# Altium schematic symbol library THD Discrete Semiconductors.SchLib: 185 symbols (part 1 of 3)
Pins are listed as number, name and electrical type; pins without a type are passive.

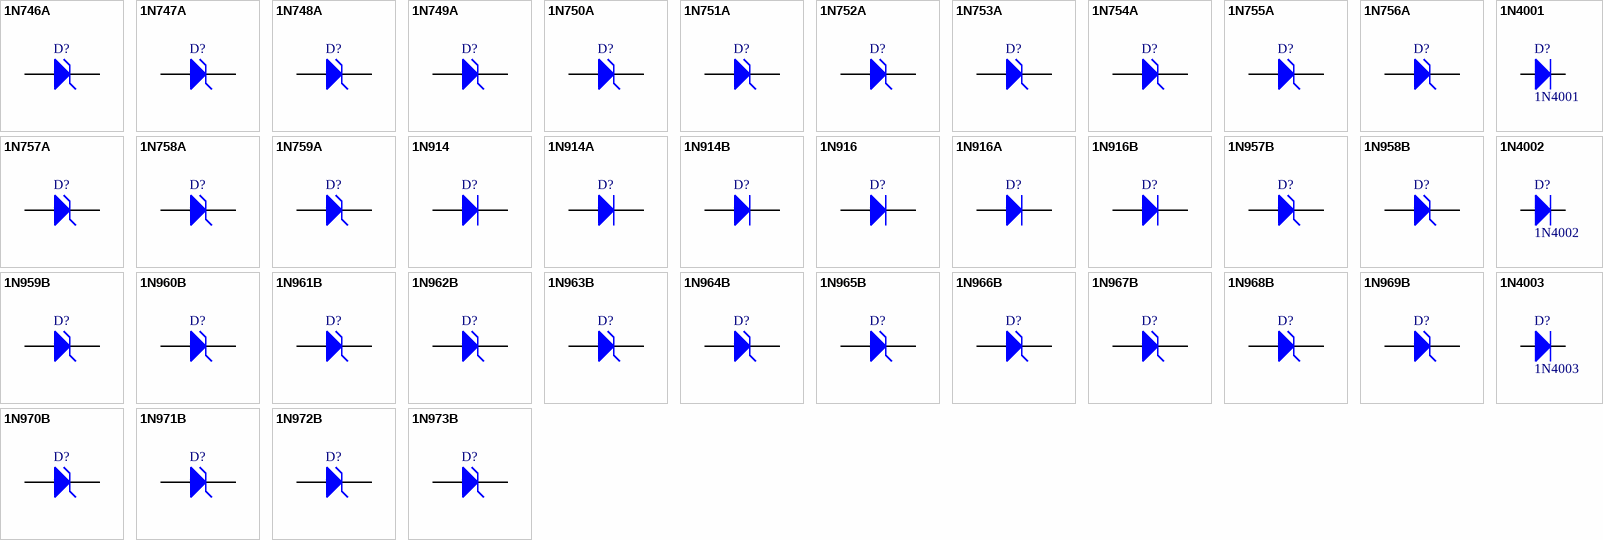
[diagram p0: symbols 1N746A to 1N4003]

## 1N746A
designator D?
3.3V Half Watt Zener; Manufacturer: Fairchild Semiconductor; Revised: 11-July-2000: SIM Model Added.; Class: Discrete; SubClass: Diode - Zener; Published: 8/06/2000; Publisher: Altium Hobart Technology Centre
simulation model 1N746A (SUBCKT)
signal-integrity model 1N746A
footprint DO-35-300-RED-GLASS (Diode, Axial; Body 5.2 x 2.7 mm (LxDia. max), Lead Dia. 0.86 mm (max))
pins: 1 A, 2 K

## 1N747A
designator D?
3.6V Half Watt Zener; Manufacturer: Fairchild Semiconductor; Revised: 11-July-2000: SIM Model Added.; Class: Discrete; SubClass: Diode - Zener; Published: 8/06/2000; Publisher: Altium Hobart Technology Centre
simulation model 1N747A (SUBCKT)
signal-integrity model 1N747A
footprint DO-35-300-RED-GLASS (Diode, Axial; Body 5.2 x 2.7 mm (LxDia. max), Lead Dia. 0.86 mm (max))
pins: 1 A, 2 K

## 1N748A
designator D?
3.9V Half Watt Zener; Manufacturer: Fairchild Semiconductor; Revised: 11-July-2000: SIM Model Added.; Class: Discrete; SubClass: Diode - Zener; Published: 8/06/2000; Publisher: Altium Hobart Technology Centre
simulation model 1N748A (SUBCKT)
signal-integrity model 1N748A
footprint DO-35-300-RED-GLASS (Diode, Axial; Body 5.2 x 2.7 mm (LxDia. max), Lead Dia. 0.86 mm (max))
pins: 1 A, 2 K

## 1N749A
designator D?
4.3V Half Watt Zener; Manufacturer: Fairchild Semiconductor; Revised: 11-July-2000: SIM Model Added.; Class: Discrete; SubClass: Diode - Zener; Published: 8/06/2000; Publisher: Altium Hobart Technology Centre
simulation model 1N749A (SUBCKT)
signal-integrity model 1N749A
footprint DO-35-300-RED-GLASS (Diode, Axial; Body 5.2 x 2.7 mm (LxDia. max), Lead Dia. 0.86 mm (max))
pins: 1 A, 2 K

## 1N750A
designator D?
4.7V Half Watt Zener; Manufacturer: Fairchild Semiconductor; Revised: 11-July-2000: SIM Model Added.; Class: Discrete; SubClass: Diode - Zener; Published: 8/06/2000; Publisher: Altium Hobart Technology Centre
simulation model 1N750A (SUBCKT)
signal-integrity model 1N750A
footprint DO-35-300-RED-GLASS (Diode, Axial; Body 5.2 x 2.7 mm (LxDia. max), Lead Dia. 0.86 mm (max))
pins: 1 A, 2 K

## 1N751A
designator D?
5.1V Half Watt Zener; Manufacturer: Fairchild Semiconductor; Revised: 11-July-2000: SIM Model Added.; Class: Discrete; SubClass: Diode - Zener; Published: 8/06/2000; Publisher: Altium Hobart Technology Centre
simulation model 1N751A (SUBCKT)
signal-integrity model 1N751A
footprint DO-35-300-RED-GLASS (Diode, Axial; Body 5.2 x 2.7 mm (LxDia. max), Lead Dia. 0.86 mm (max))
pins: 1 A, 2 K

## 1N752A
designator D?
5.6V Half Watt Zener; Manufacturer: Fairchild Semiconductor; Revised: 11-July-2000: SIM Model Added.; Class: Discrete; SubClass: Diode - Zener; Published: 8/06/2000; Publisher: Altium Hobart Technology Centre
simulation model 1N752A (SUBCKT)
signal-integrity model 1N752A
footprint DO-35-300-RED-GLASS (Diode, Axial; Body 5.2 x 2.7 mm (LxDia. max), Lead Dia. 0.86 mm (max))
pins: 1 A, 2 K

## 1N753A
designator D?
6.2V Half Watt Zener; Manufacturer: Fairchild Semiconductor; Revised: 11-July-2000: SIM Model Added.; Class: Discrete; SubClass: Diode - Zener; Published: 8/06/2000; Publisher: Altium Hobart Technology Centre
simulation model 1N753A (SUBCKT)
signal-integrity model 1N753A
footprint DO-35-300-RED-GLASS (Diode, Axial; Body 5.2 x 2.7 mm (LxDia. max), Lead Dia. 0.86 mm (max))
pins: 1 A, 2 K

## 1N754A
designator D?
6.8V Half Watt Zener; Manufacturer: Fairchild Semiconductor; Revised: 11-July-2000: SIM Model Added.; Class: Discrete; SubClass: Diode - Zener; Published: 8/06/2000; Publisher: Altium Hobart Technology Centre
simulation model 1N754A (SUBCKT)
signal-integrity model 1N754A
footprint DO-35-300-RED-GLASS (Diode, Axial; Body 5.2 x 2.7 mm (LxDia. max), Lead Dia. 0.86 mm (max))
pins: 1 A, 2 K

## 1N755A
designator D?
7.5V Half Watt Zener; Manufacturer: Fairchild Semiconductor; Revised: 11-July-2000: SIM Model Added.; Class: Discrete; SubClass: Diode - Zener; Published: 8/06/2000; Publisher: Altium Hobart Technology Centre
simulation model 1N755A (SUBCKT)
signal-integrity model 1N755A
footprint DO-35-300-RED-GLASS (Diode, Axial; Body 5.2 x 2.7 mm (LxDia. max), Lead Dia. 0.86 mm (max))
pins: 1 A, 2 K

## 1N756A
designator D?
8.2V Half Watt Zener; Manufacturer: Fairchild Semiconductor; Revised: 11-July-2000: SIM Model Added.; Class: Discrete; SubClass: Diode - Zener; Published: 8/06/2000; Publisher: Altium Hobart Technology Centre
simulation model 1N756A (SUBCKT)
signal-integrity model 1N756A
footprint DO-35-300-RED-GLASS (Diode, Axial; Body 5.2 x 2.7 mm (LxDia. max), Lead Dia. 0.86 mm (max))
pins: 1 A, 2 K

## 1N757A
designator D?
9.1V Half Watt Zener; Manufacturer: Fairchild Semiconductor; Revised: 11-July-2000: SIM Model Added.; Class: Discrete; SubClass: Diode - Zener; Published: 8/06/2000; Publisher: Altium Hobart Technology Centre
simulation model 1N757A (SUBCKT)
signal-integrity model 1N757A
footprint DO-35-300-RED-GLASS (Diode, Axial; Body 5.2 x 2.7 mm (LxDia. max), Lead Dia. 0.86 mm (max))
pins: 1 A, 2 K

## 1N758A
designator D?
10.0V Half Watt Zener; Manufacturer: Fairchild Semiconductor; Revised: 11-July-2000: SIM Model Added.; Class: Discrete; SubClass: Diode - Zener; Published: 8/06/2000; Publisher: Altium Hobart Technology Centre
simulation model 1N758A (SUBCKT)
signal-integrity model 1N758A
footprint DO-35-300-RED-GLASS (Diode, Axial; Body 5.2 x 2.7 mm (LxDia. max), Lead Dia. 0.86 mm (max))
pins: 1 A, 2 K

## 1N759A
designator D?
12.0V Half Watt Zener; Manufacturer: Fairchild Semiconductor; Revised: 11-July-2000: SIM Model Added.; Class: Discrete; SubClass: Diode - Zener; Published: 8/06/2000; Publisher: Altium Hobart Technology Centre
simulation model 1N759A (SUBCKT)
signal-integrity model 1N759A
footprint DO-35-300-RED-GLASS (Diode, Axial; Body 5.2 x 2.7 mm (LxDia. max), Lead Dia. 0.86 mm (max))
pins: 1 A, 2 K

## 1N914
designator D?
High Conductance Fast Diode; Manufacturer: Fairchild Semiconductor; Revised: 11-July-2000: SIM Model Added.; Class: Discrete; SubClass: Diode - Switching; Published: 8/06/2000; Publisher: Altium Hobart Technology Centre
simulation model 1N914 (DIODE)
signal-integrity model 1N914
footprint DO-35-300-RED-GLASS (Diode, Axial; Body 5.2 x 2.7 mm (LxDia. max), Lead Dia. 0.86 mm (max))
pins: 1 A, 2 K

## 1N914A
designator D?
High Conductance Fast Diode; Manufacturer: Fairchild Semiconductor; Revised: 11-July-2000: SIM Model Added.; Class: Discrete; SubClass: Diode - Switching; Published: 8/06/2000; Publisher: Altium Hobart Technology Centre
simulation model 1N914A (DIODE)
signal-integrity model 1N914A
footprint DO-35-300-RED-GLASS (Diode, Axial; Body 5.2 x 2.7 mm (LxDia. max), Lead Dia. 0.86 mm (max))
pins: 1 A, 2 K

## 1N914B
designator D?
High Conductance Fast Diode; Manufacturer: Fairchild Semiconductor; Revised: 11-July-2000: SIM Model Added.; Class: Discrete; SubClass: Diode - Switching; Published: 8/06/2000; Publisher: Altium Hobart Technology Centre
simulation model 1N914B (DIODE)
signal-integrity model 1N914B
footprint DO-35-300-RED-GLASS (Diode, Axial; Body 5.2 x 2.7 mm (LxDia. max), Lead Dia. 0.86 mm (max))
pins: 1 A, 2 K

## 1N916
designator D?
High Conductance Fast Diode; Manufacturer: Fairchild Semiconductor; Revised: 11-July-2000: SIM Model Added.; Class: Discrete; SubClass: Diode - Switching; Published: 8/06/2000; Publisher: Altium Hobart Technology Centre
simulation model 1N916 (DIODE)
signal-integrity model 1N916
footprint DO-35-300-RED-GLASS (Diode, Axial; Body 5.2 x 2.7 mm (LxDia. max), Lead Dia. 0.86 mm (max))
pins: 1 A, 2 K

## 1N916A
designator D?
High Conductance Fast Diode; Manufacturer: Fairchild Semiconductor; Revised: 11-July-2000: SIM Model Added.; Class: Discrete; SubClass: Diode - Switching; Published: 8/06/2000; Publisher: Altium Hobart Technology Centre
simulation model 1N916A (DIODE)
signal-integrity model 1N916A
footprint DO-35-300-RED-GLASS (Diode, Axial; Body 5.2 x 2.7 mm (LxDia. max), Lead Dia. 0.86 mm (max))
pins: 1 A, 2 K

## 1N916B
designator D?
High Conductance Fast Diode; Manufacturer: Fairchild Semiconductor; Revised: 11-July-2000: SIM Model Added.; Class: Discrete; SubClass: Diode - Switching; Published: 8/06/2000; Publisher: Altium Hobart Technology Centre
simulation model 1N916B (DIODE)
signal-integrity model 1N916B
footprint DO-35-300-RED-GLASS (Diode, Axial; Body 5.2 x 2.7 mm (LxDia. max), Lead Dia. 0.86 mm (max))
pins: 1 A, 2 K

## 1N957B
designator D?
6.8V Half Watt Zener; Manufacturer: Fairchild Semiconductor; Revised: 11-July-2000: SIM Model Added.; Class: Discrete; SubClass: Diode - Zener; Published: 8/06/2000; Publisher: Altium Hobart Technology Centre
simulation model 1N957B (SUBCKT)
signal-integrity model 1N957B
footprint DO-35-300-RED-GLASS (Diode, Axial; Body 5.2 x 2.7 mm (LxDia. max), Lead Dia. 0.86 mm (max))
pins: 1 A, 2 K

## 1N958B
designator D?
7.5V Half Watt Zener; Manufacturer: Fairchild Semiconductor; Revised: 11-July-2000: SIM Model Added.; Class: Discrete; SubClass: Diode - Zener; Published: 8/06/2000; Publisher: Altium Hobart Technology Centre
simulation model 1N958B (SUBCKT)
signal-integrity model 1N958B
footprint DO-35-300-RED-GLASS (Diode, Axial; Body 5.2 x 2.7 mm (LxDia. max), Lead Dia. 0.86 mm (max))
pins: 1 A, 2 K

## 1N959B
designator D?
8.2V Half Watt Zener; Manufacturer: Fairchild Semiconductor; Revised: 11-July-2000: SIM Model Added.; Class: Discrete; SubClass: Diode - Zener; Published: 8/06/2000; Publisher: Altium Hobart Technology Centre
simulation model 1N959B (SUBCKT)
signal-integrity model 1N959B
footprint DO-35-300-RED-GLASS (Diode, Axial; Body 5.2 x 2.7 mm (LxDia. max), Lead Dia. 0.86 mm (max))
pins: 1 A, 2 K

## 1N960B
designator D?
9.1V Half Watt Zener; Manufacturer: Fairchild Semiconductor; Revised: 11-July-2000: SIM Model Added.; Class: Discrete; SubClass: Diode - Zener; Published: 8/06/2000; Publisher: Altium Hobart Technology Centre
simulation model 1N960B (SUBCKT)
signal-integrity model 1N960B
footprint DO-35-300-RED-GLASS (Diode, Axial; Body 5.2 x 2.7 mm (LxDia. max), Lead Dia. 0.86 mm (max))
pins: 1 A, 2 K

## 1N961B
designator D?
10V Half Watt Zener; Manufacturer: Fairchild Semiconductor; Revised: 11-July-2000: SIM Model Added.; Class: Discrete; SubClass: Diode - Zener; Published: 8/06/2000; Publisher: Altium Hobart Technology Centre
simulation model 1N961B (SUBCKT)
signal-integrity model 1N961B
footprint DO-35-300-RED-GLASS (Diode, Axial; Body 5.2 x 2.7 mm (LxDia. max), Lead Dia. 0.86 mm (max))
pins: 1 A, 2 K

## 1N962B
designator D?
11V Half Watt Zener; Manufacturer: Fairchild Semiconductor; Revised: 11-July-2000: SIM Model Added.; Class: Discrete; SubClass: Diode - Zener; Published: 8/06/2000; Publisher: Altium Hobart Technology Centre
simulation model 1N962B (SUBCKT)
signal-integrity model 1N962B
footprint DO-35-300-RED-GLASS (Diode, Axial; Body 5.2 x 2.7 mm (LxDia. max), Lead Dia. 0.86 mm (max))
pins: 1 A, 2 K

## 1N963B
designator D?
12V Half Watt Zener; Manufacturer: Fairchild Semiconductor; Revised: 11-July-2000: SIM Model Added.; Class: Discrete; SubClass: Diode - Zener; Published: 8/06/2000; Publisher: Altium Hobart Technology Centre
simulation model 1N963B (SUBCKT)
signal-integrity model 1N963B
footprint DO-35-300-RED-GLASS (Diode, Axial; Body 5.2 x 2.7 mm (LxDia. max), Lead Dia. 0.86 mm (max))
pins: 1 A, 2 K

## 1N964B
designator D?
13V Half Watt Zener; Manufacturer: Fairchild Semiconductor; Revised: 11-July-2000: SIM Model Added.; Class: Discrete; SubClass: Diode - Zener; Published: 8/06/2000; Publisher: Altium Hobart Technology Centre
simulation model 1N964B (SUBCKT)
signal-integrity model 1N964B
footprint DO-35-300-RED-GLASS (Diode, Axial; Body 5.2 x 2.7 mm (LxDia. max), Lead Dia. 0.86 mm (max))
pins: 1 A, 2 K

## 1N965B
designator D?
15V Half Watt Zener; Manufacturer: Fairchild Semiconductor; Revised: 11-July-2000: SIM Model Added.; Class: Discrete; SubClass: Diode - Zener; Published: 8/06/2000; Publisher: Altium Hobart Technology Centre
simulation model 1N965B (SUBCKT)
signal-integrity model 1N965B
footprint DO-35-300-RED-GLASS (Diode, Axial; Body 5.2 x 2.7 mm (LxDia. max), Lead Dia. 0.86 mm (max))
pins: 1 A, 2 K

## 1N966B
designator D?
16V Half Watt Zener; Manufacturer: Fairchild Semiconductor; Revised: 11-July-2000: SIM Model Added.; Class: Discrete; SubClass: Diode - Zener; Published: 8/06/2000; Publisher: Altium Hobart Technology Centre
simulation model 1N966B (SUBCKT)
signal-integrity model 1N966B
footprint DO-35-300-RED-GLASS (Diode, Axial; Body 5.2 x 2.7 mm (LxDia. max), Lead Dia. 0.86 mm (max))
pins: 1 A, 2 K

## 1N967B
designator D?
18V Half Watt Zener; Manufacturer: Fairchild Semiconductor; Revised: 11-July-2000: SIM Model Added.; Class: Discrete; SubClass: Diode - Zener; Published: 8/06/2000; Publisher: Altium Hobart Technology Centre
simulation model 1N967B (SUBCKT)
signal-integrity model 1N967B
footprint DO-35-300-RED-GLASS (Diode, Axial; Body 5.2 x 2.7 mm (LxDia. max), Lead Dia. 0.86 mm (max))
pins: 1 A, 2 K

## 1N968B
designator D?
20V Half Watt Zener; Manufacturer: Fairchild Semiconductor; Revised: 11-July-2000: SIM Model Added.; Class: Discrete; SubClass: Diode - Zener; Published: 8/06/2000; Publisher: Altium Hobart Technology Centre
simulation model 1N968B (SUBCKT)
signal-integrity model 1N968B
footprint DO-35-300-RED-GLASS (Diode, Axial; Body 5.2 x 2.7 mm (LxDia. max), Lead Dia. 0.86 mm (max))
pins: 1 A, 2 K

## 1N969B
designator D?
22V Half Watt Zener; Manufacturer: Fairchild Semiconductor; Revised: 11-July-2000: SIM Model Added.; Class: Discrete; SubClass: Diode - Zener; Published: 8/06/2000; Publisher: Altium Hobart Technology Centre
simulation model 1N969B (SUBCKT)
signal-integrity model 1N969B
footprint DO-35-300-RED-GLASS (Diode, Axial; Body 5.2 x 2.7 mm (LxDia. max), Lead Dia. 0.86 mm (max))
pins: 1 A, 2 K

## 1N970B
designator D?
24V Half Watt Zener; Manufacturer: Fairchild Semiconductor; Revised: 11-July-2000: SIM Model Added.; Class: Discrete; SubClass: Diode - Zener; Published: 8/06/2000; Publisher: Altium Hobart Technology Centre
simulation model 1N970B (SUBCKT)
signal-integrity model 1N970B
footprint DO-35-300-RED-GLASS (Diode, Axial; Body 5.2 x 2.7 mm (LxDia. max), Lead Dia. 0.86 mm (max))
pins: 1 A, 2 K

## 1N971B
designator D?
27V Half Watt Zener; Manufacturer: Fairchild Semiconductor; Revised: 11-July-2000: SIM Model Added.; Class: Discrete; SubClass: Diode - Zener; Published: 8/06/2000; Publisher: Altium Hobart Technology Centre
simulation model 1N971B (SUBCKT)
signal-integrity model 1N971B
footprint DO-35-300-RED-GLASS (Diode, Axial; Body 5.2 x 2.7 mm (LxDia. max), Lead Dia. 0.86 mm (max))
pins: 1 A, 2 K

## 1N972B
designator D?
30V Half Watt Zener; Manufacturer: Fairchild Semiconductor; Revised: 11-July-2000: SIM Model Added.; Class: Discrete; SubClass: Diode - Zener; Published: 8/06/2000; Publisher: Altium Hobart Technology Centre
simulation model 1N972B (SUBCKT)
signal-integrity model 1N972B
footprint DO-35-300-RED-GLASS (Diode, Axial; Body 5.2 x 2.7 mm (LxDia. max), Lead Dia. 0.86 mm (max))
pins: 1 A, 2 K

## 1N973B
designator D?
33V Half Watt Zener; Manufacturer: Fairchild Semiconductor; Revised: 11-July-2000: SIM Model Added.; Class: Discrete; SubClass: Diode - Zener; Published: 8/06/2000; Publisher: Altium Hobart Technology Centre
simulation model 1N973B (SUBCKT)
signal-integrity model 1N973B
footprint DO-35-300-RED-GLASS (Diode, Axial; Body 5.2 x 2.7 mm (LxDia. max), Lead Dia. 0.86 mm (max))
pins: 1 A, 2 K

## 1N4001
designator D?
1A,  Vrms=35V General Purpose Rectifier; Published: 8-Jun-2000; LatestRevisionDate: 17-Jul-2002; LatestRevisionNote: Re-released for DXP Platform.; DatasheetVersion: 1998; PackageVersion: Aug-1999; PackageReference: DO-41; Publisher: Altium Limited; PackageDescription: Diode, Axial; Body 5.2 x 2.7 mm (LxDia. max), Lead Dia. 0.86 mm (max); Code_JEDEC: DO-204-AL; ComponentLink1Description: Manufacturer Link; ComponentLink1URL: http://www.fairchildsemi.com/; ComponentLink2Description: Datasheet; ComponentLink2URL: http://www.fairchildsemi.com/ds/1N%2F1N4001.pdf
footprint DO-41-400-BLACK (Diode, Axial; Body 5.2 x 2.7 mm (LxDia. max), Lead Dia. 0.86 mm (max))
footprint DO-41-300-BLACK (Diode, Axial; Body 5.2 x 2.7 mm (LxDia. max), Lead Dia. 0.86 mm (max))
footprint DO-41-500-BLACK (Diode, Axial; Body 5.2 x 2.7 mm (LxDia. max), Lead Dia. 0.86 mm (max))
pins: 1 A, 2 K

## 1N4002
designator D?
1A,  Vrms=70V General Purpose Rectifier; Published: 8-Jun-2000; LatestRevisionDate: 17-Jul-2002; LatestRevisionNote: Re-released for DXP Platform.; DatasheetVersion: 1998; PackageVersion: Aug-1999; PackageReference: DO-41; Publisher: Altium Limited; PackageDescription: Diode, Axial; Body 5.2 x 2.7 mm (LxDia. max), Lead Dia. 0.86 mm (max); Code_JEDEC: DO-204-AL; ComponentLink1Description: Manufacturer Link; ComponentLink1URL: http://www.fairchildsemi.com/; ComponentLink2Description: Datasheet; ComponentLink2URL: http://www.fairchildsemi.com/ds/1N%2F1N4001.pdf
footprint DO-41-400-BLACK (Diode, Axial; Body 5.2 x 2.7 mm (LxDia. max), Lead Dia. 0.86 mm (max))
footprint DO-41-300-BLACK (Diode, Axial; Body 5.2 x 2.7 mm (LxDia. max), Lead Dia. 0.86 mm (max))
footprint DO-41-500-BLACK (Diode, Axial; Body 5.2 x 2.7 mm (LxDia. max), Lead Dia. 0.86 mm (max))
pins: 1 A, 2 K

## 1N4003
designator D?
1A,  Vrms=140V General Purpose Rectifier; Published: 8-Jun-2000; LatestRevisionDate: 17-Jul-2002; LatestRevisionNote: Re-released for DXP Platform.; DatasheetVersion: 1998; PackageVersion: Aug-1999; PackageReference: DO-41; Publisher: Altium Limited; PackageDescription: Diode, Axial; Body 5.2 x 2.7 mm (LxDia. max), Lead Dia. 0.86 mm (max); Code_JEDEC: DO-204-AL; ComponentLink1Description: Manufacturer Link; ComponentLink1URL: http://www.fairchildsemi.com/; ComponentLink2Description: Datasheet; ComponentLink2URL: http://www.fairchildsemi.com/ds/1N%2F1N4001.pdf
footprint DO-41-400-BLACK (Diode, Axial; Body 5.2 x 2.7 mm (LxDia. max), Lead Dia. 0.86 mm (max))
footprint DO-41-300-BLACK (Diode, Axial; Body 5.2 x 2.7 mm (LxDia. max), Lead Dia. 0.86 mm (max))
footprint DO-41-500-BLACK (Diode, Axial; Body 5.2 x 2.7 mm (LxDia. max), Lead Dia. 0.86 mm (max))
pins: 1 A, 2 K

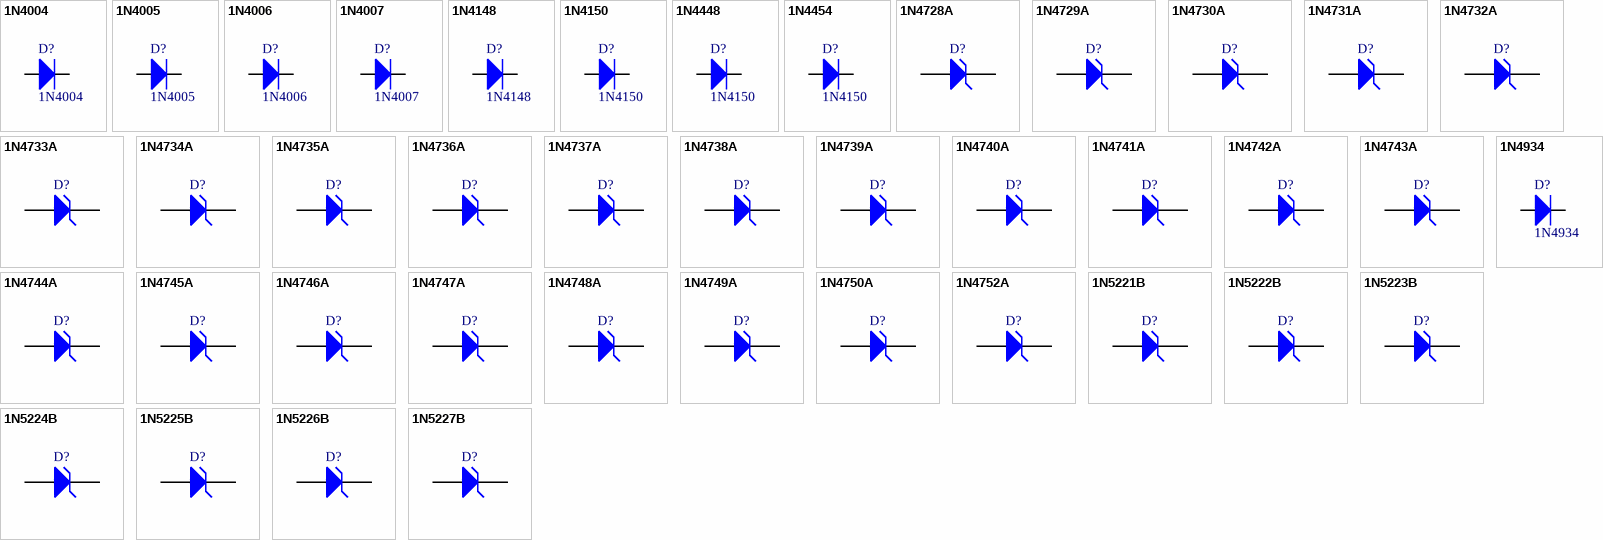
[diagram p1: symbols 1N4004 to 1N5227B]

## 1N4004
designator D?
1A,  Vrms=280V General Purpose Rectifier; Published: 8-Jun-2000; LatestRevisionDate: 17-Jul-2002; LatestRevisionNote: Re-released for DXP Platform.; DatasheetVersion: 1998; PackageVersion: Aug-1999; PackageReference: DO-41; Publisher: Altium Limited; PackageDescription: Diode, Axial; Body 5.2 x 2.7 mm (LxDia. max), Lead Dia. 0.86 mm (max); Code_JEDEC: DO-204-AL; ComponentLink1Description: Manufacturer Link; ComponentLink1URL: http://www.fairchildsemi.com/; ComponentLink2Description: Datasheet; ComponentLink2URL: http://www.fairchildsemi.com/ds/1N%2F1N4001.pdf
footprint DO-41-400-BLACK (Diode, Axial; Body 5.2 x 2.7 mm (LxDia. max), Lead Dia. 0.86 mm (max))
footprint DO-41-300-BLACK (Diode, Axial; Body 5.2 x 2.7 mm (LxDia. max), Lead Dia. 0.86 mm (max))
footprint DO-41-500-BLACK (Diode, Axial; Body 5.2 x 2.7 mm (LxDia. max), Lead Dia. 0.86 mm (max))
pins: 1 A, 2 K

## 1N4005
designator D?
1A,  Vrms=420V General Purpose Rectifier; Published: 8-Jun-2000; LatestRevisionDate: 17-Jul-2002; LatestRevisionNote: Re-released for DXP Platform.; DatasheetVersion: 1998; PackageVersion: Aug-1999; PackageReference: DO-41; Publisher: Altium Limited; PackageDescription: Diode, Axial; Body 5.2 x 2.7 mm (LxDia. max), Lead Dia. 0.86 mm (max); Code_JEDEC: DO-204-AL; ComponentLink1Description: Manufacturer Link; ComponentLink1URL: http://www.fairchildsemi.com/; ComponentLink2Description: Datasheet; ComponentLink2URL: http://www.fairchildsemi.com/ds/1N%2F1N4001.pdf
footprint DO-41-400-BLACK (Diode, Axial; Body 5.2 x 2.7 mm (LxDia. max), Lead Dia. 0.86 mm (max))
footprint DO-41-300-BLACK (Diode, Axial; Body 5.2 x 2.7 mm (LxDia. max), Lead Dia. 0.86 mm (max))
footprint DO-41-500-BLACK (Diode, Axial; Body 5.2 x 2.7 mm (LxDia. max), Lead Dia. 0.86 mm (max))
pins: 1 A, 2 K

## 1N4006
designator D?
1A,  Vrms=560V General Purpose Rectifier; Published: 8-Jun-2000; LatestRevisionDate: 17-Jul-2002; LatestRevisionNote: Re-released for DXP Platform.; DatasheetVersion: 1998; PackageVersion: Aug-1999; PackageReference: DO-41; Publisher: Altium Limited; PackageDescription: Diode, Axial; Body 5.2 x 2.7 mm (LxDia. max), Lead Dia. 0.86 mm (max); Code_JEDEC: DO-204-AL; ComponentLink1Description: Manufacturer Link; ComponentLink1URL: http://www.fairchildsemi.com/; ComponentLink2Description: Datasheet; ComponentLink2URL: http://www.fairchildsemi.com/ds/1N%2F1N4001.pdf
footprint DO-41-400-BLACK (Diode, Axial; Body 5.2 x 2.7 mm (LxDia. max), Lead Dia. 0.86 mm (max))
footprint DO-41-300-BLACK (Diode, Axial; Body 5.2 x 2.7 mm (LxDia. max), Lead Dia. 0.86 mm (max))
footprint DO-41-500-BLACK (Diode, Axial; Body 5.2 x 2.7 mm (LxDia. max), Lead Dia. 0.86 mm (max))
pins: 1 A, 2 K

## 1N4007
designator D?
1A,  Vrms=700V General Purpose Rectifier; Published: 8-Jun-2000; LatestRevisionDate: 17-Jul-2002; LatestRevisionNote: Re-released for DXP Platform.; DatasheetVersion: 1998; PackageVersion: Aug-1999; PackageReference: DO-41; Publisher: Altium Limited; PackageDescription: Diode, Axial; Body 5.2 x 2.7 mm (LxDia. max), Lead Dia. 0.86 mm (max); Code_JEDEC: DO-204-AL; ComponentLink1Description: Manufacturer Link; ComponentLink1URL: http://www.fairchildsemi.com/; ComponentLink2Description: Datasheet; ComponentLink2URL: http://www.fairchildsemi.com/ds/1N%2F1N4001.pdf
footprint DO-41-400-BLACK (Diode, Axial; Body 5.2 x 2.7 mm (LxDia. max), Lead Dia. 0.86 mm (max))
footprint DO-41-300-BLACK (Diode, Axial; Body 5.2 x 2.7 mm (LxDia. max), Lead Dia. 0.86 mm (max))
footprint DO-41-500-BLACK (Diode, Axial; Body 5.2 x 2.7 mm (LxDia. max), Lead Dia. 0.86 mm (max))
pins: 1 A, 2 K

## 1N4148
designator D?
300mA Switching Diode; Published: 8-Jun-2000; LatestRevisionDate: 17-Jul-2002; LatestRevisionNote: Re-released for DXP Platform.; DatasheetVersion: 1998; PackageVersion: Aug-1999; PackageReference: DO-41; Publisher: Altium Limited; PackageDescription: Diode, Axial; Body 5.2 x 2.7 mm (LxDia. max), Lead Dia. 0.86 mm (max); Code_JEDEC: DO-204-AL; ComponentLink1Description: Manufacturer Link; ComponentLink1URL: http://www.fairchildsemi.com/; ComponentLink2Description: Datasheet; ComponentLink2URL: http://www.fairchildsemi.com/ds/1N%2F1N4001.pdf
footprint DO-41-300-RED-GLASS (Diode, Axial; Body 5.2 x 2.7 mm (LxDia. max), Lead Dia. 0.86 mm (max))
footprint DO-41-400-RED-GLASS (Diode, Axial; Body 5.2 x 2.7 mm (LxDia. max), Lead Dia. 0.86 mm (max))
footprint DO-41-500-RED-GLASS (Diode, Axial; Body 5.2 x 2.7 mm (LxDia. max), Lead Dia. 0.86 mm (max))
pins: 1 A, 2 K

## 1N4150
designator D?
High Conductance Ultra Fast Diode; Published: 8-Jun-2000; LatestRevisionDate: 17-Jul-2002; LatestRevisionNote: Re-released for DXP Platform.; DatasheetVersion: 1998; PackageVersion: Aug-1999; PackageReference: DO-41; Publisher: Altium Limited; PackageDescription: Diode, Axial; Body 5.2 x 2.7 mm (LxDia. max), Lead Dia. 0.86 mm (max); Code_JEDEC: DO-204-AL; ComponentLink1Description: Manufacturer Link; ComponentLink1URL: http://www.fairchildsemi.com/; ComponentLink2Description: Datasheet; ComponentLink2URL: http://www.fairchildsemi.com/ds/1N%2F1N4001.pdf
footprint DO-41-300-RED-GLASS (Diode, Axial; Body 5.2 x 2.7 mm (LxDia. max), Lead Dia. 0.86 mm (max))
footprint DO-41-400-RED-GLASS (Diode, Axial; Body 5.2 x 2.7 mm (LxDia. max), Lead Dia. 0.86 mm (max))
footprint DO-41-500-RED-GLASS (Diode, Axial; Body 5.2 x 2.7 mm (LxDia. max), Lead Dia. 0.86 mm (max))
pins: 1 A, 2 K

## 1N4448
designator D?, comment 1N4150
High Conductance Fast Diode; Published: 8-Jun-2000; LatestRevisionDate: 17-Jul-2002; LatestRevisionNote: Re-released for DXP Platform.; DatasheetVersion: 1998; PackageVersion: Aug-1999; PackageReference: DO-41; Publisher: Altium Limited; PackageDescription: Diode, Axial; Body 5.2 x 2.7 mm (LxDia. max), Lead Dia. 0.86 mm (max); Code_JEDEC: DO-204-AL; ComponentLink1Description: Manufacturer Link; ComponentLink1URL: http://www.fairchildsemi.com/; ComponentLink2Description: Datasheet; ComponentLink2URL: http://www.fairchildsemi.com/ds/1N%2F1N4001.pdf
footprint DO-41-300-RED-GLASS (Diode, Axial; Body 5.2 x 2.7 mm (LxDia. max), Lead Dia. 0.86 mm (max))
footprint DO-41-400-RED-GLASS (Diode, Axial; Body 5.2 x 2.7 mm (LxDia. max), Lead Dia. 0.86 mm (max))
footprint DO-41-500-RED-GLASS (Diode, Axial; Body 5.2 x 2.7 mm (LxDia. max), Lead Dia. 0.86 mm (max))
pins: 1 A, 2 K

## 1N4454
designator D?, comment 1N4150
High Conductance Ultra Fast Diode; Published: 8-Jun-2000; LatestRevisionDate: 17-Jul-2002; LatestRevisionNote: Re-released for DXP Platform.; DatasheetVersion: 1998; PackageVersion: Aug-1999; PackageReference: DO-41; Publisher: Altium Limited; PackageDescription: Diode, Axial; Body 5.2 x 2.7 mm (LxDia. max), Lead Dia. 0.86 mm (max); Code_JEDEC: DO-204-AL; ComponentLink1Description: Manufacturer Link; ComponentLink1URL: http://www.fairchildsemi.com/; ComponentLink2Description: Datasheet; ComponentLink2URL: http://www.fairchildsemi.com/ds/1N%2F1N4001.pdf
footprint DO-41-300-RED-GLASS (Diode, Axial; Body 5.2 x 2.7 mm (LxDia. max), Lead Dia. 0.86 mm (max))
footprint DO-41-400-RED-GLASS (Diode, Axial; Body 5.2 x 2.7 mm (LxDia. max), Lead Dia. 0.86 mm (max))
footprint DO-41-500-RED-GLASS (Diode, Axial; Body 5.2 x 2.7 mm (LxDia. max), Lead Dia. 0.86 mm (max))
pins: 1 A, 2 K

## 1N4728A
designator D?
3.3V One Watt Zener; Manufacturer: Fairchild Semiconductor; Revised: 11-July-2000: SIM Model Added.; Class: Discrete; SubClass: Diode - Zener; Published: 8/06/2000; Publisher: Altium Hobart Technology Centre
simulation model 1N4728A (SUBCKT)
signal-integrity model 1N4728A
footprint DO-41-300-RED-GLASS (Diode, Axial; Body 5.2 x 2.7 mm (LxDia. max), Lead Dia. 0.86 mm (max))
pins: 1 A, 2 K

## 1N4729A
designator D?
3.6V One Watt Zener; Manufacturer: Fairchild Semiconductor; Revised: 11-July-2000: SIM Model Added.; Class: Discrete; SubClass: Diode - Zener; Published: 8/06/2000; Publisher: Altium Hobart Technology Centre
simulation model 1N4729A (SUBCKT)
signal-integrity model 1N4729A
footprint DO-41-300-RED-GLASS (Diode, Axial; Body 5.2 x 2.7 mm (LxDia. max), Lead Dia. 0.86 mm (max))
pins: 1 A, 2 K

## 1N4730A
designator D?
3.9V One Watt Zener; Manufacturer: Fairchild Semiconductor; Revised: 11-July-2000: SIM Model Added.; Class: Discrete; SubClass: Diode - Zener; Published: 8/06/2000; Publisher: Altium Hobart Technology Centre
simulation model 1N4730A (SUBCKT)
signal-integrity model 1N4730A
footprint DO-41-300-RED-GLASS (Diode, Axial; Body 5.2 x 2.7 mm (LxDia. max), Lead Dia. 0.86 mm (max))
pins: 1 A, 2 K

## 1N4731A
designator D?
4.3V One Watt Zener; Manufacturer: Fairchild Semiconductor; Revised: 11-July-2000: SIM Model Added.; Class: Discrete; SubClass: Diode - Zener; Published: 8/06/2000; Publisher: Altium Hobart Technology Centre
simulation model 1N4731A (SUBCKT)
signal-integrity model 1N4731A
footprint DO-41-300-RED-GLASS (Diode, Axial; Body 5.2 x 2.7 mm (LxDia. max), Lead Dia. 0.86 mm (max))
pins: 1 A, 2 K

## 1N4732A
designator D?
4.7V One Watt Zener; Manufacturer: Fairchild Semiconductor; Revised: 11-July-2000: SIM Model Added.; Class: Discrete; SubClass: Diode - Zener; Published: 8/06/2000; Publisher: Altium Hobart Technology Centre
simulation model 1N4732A (SUBCKT)
signal-integrity model 1N4732A
footprint DO-41-300-RED-GLASS (Diode, Axial; Body 5.2 x 2.7 mm (LxDia. max), Lead Dia. 0.86 mm (max))
pins: 1 A, 2 K

## 1N4733A
designator D?
5.1V One Watt Zener; Manufacturer: Fairchild Semiconductor; Revised: 11-July-2000: SIM Model Added.; Class: Discrete; SubClass: Diode - Zener; Published: 8/06/2000; Publisher: Altium Hobart Technology Centre
simulation model 1N4733A (SUBCKT)
signal-integrity model 1N4733A
footprint DO-41-300-RED-GLASS (Diode, Axial; Body 5.2 x 2.7 mm (LxDia. max), Lead Dia. 0.86 mm (max))
pins: 1 A, 2 K

## 1N4734A
designator D?
5.6V One Watt Zener; Manufacturer: Fairchild Semiconductor; Revised: 11-July-2000: SIM Model Added.; Class: Discrete; SubClass: Diode - Zener; Published: 8/06/2000; Publisher: Altium Hobart Technology Centre
simulation model 1N4734A (SUBCKT)
signal-integrity model 1N4734A
footprint DO-41-300-RED-GLASS (Diode, Axial; Body 5.2 x 2.7 mm (LxDia. max), Lead Dia. 0.86 mm (max))
pins: 1 A, 2 K

## 1N4735A
designator D?
6.2V One Watt Zener; Manufacturer: Fairchild Semiconductor; Revised: 11-July-2000: SIM Model Added.; Class: Discrete; SubClass: Diode - Zener; Published: 8/06/2000; Publisher: Altium Hobart Technology Centre
simulation model 1N4735A (SUBCKT)
signal-integrity model 1N4735A
footprint DO-41-300-RED-GLASS (Diode, Axial; Body 5.2 x 2.7 mm (LxDia. max), Lead Dia. 0.86 mm (max))
pins: 1 A, 2 K

## 1N4736A
designator D?
6.8V One Watt Zener; Manufacturer: Fairchild Semiconductor; Revised: 11-July-2000: SIM Model Added.; Class: Discrete; SubClass: Diode - Zener; Published: 8/06/2000; Publisher: Altium Hobart Technology Centre
simulation model 1N4736A (SUBCKT)
signal-integrity model 1N4736A
footprint DO-41-300-RED-GLASS (Diode, Axial; Body 5.2 x 2.7 mm (LxDia. max), Lead Dia. 0.86 mm (max))
pins: 1 A, 2 K

## 1N4737A
designator D?
7.5V One Watt Zener; Manufacturer: Fairchild Semiconductor; Revised: 11-July-2000: SIM Model Added.; Class: Discrete; SubClass: Diode - Zener; Published: 8/06/2000; Publisher: Altium Hobart Technology Centre
simulation model 1N4737A (SUBCKT)
signal-integrity model 1N4737A
footprint DO-41-300-RED-GLASS (Diode, Axial; Body 5.2 x 2.7 mm (LxDia. max), Lead Dia. 0.86 mm (max))
pins: 1 A, 2 K

## 1N4738A
designator D?
8.2V One Watt Zener; Manufacturer: Fairchild Semiconductor; Revised: 11-July-2000: SIM Model Added.; Class: Discrete; SubClass: Diode - Zener; Published: 8/06/2000; Publisher: Altium Hobart Technology Centre
simulation model 1N4738A (SUBCKT)
signal-integrity model 1N4738A
footprint DO-41-300-RED-GLASS (Diode, Axial; Body 5.2 x 2.7 mm (LxDia. max), Lead Dia. 0.86 mm (max))
pins: 1 A, 2 K

## 1N4739A
designator D?
9.1V One Watt Zener; Manufacturer: Fairchild Semiconductor; Revised: 11-July-2000: SIM Model Added.; Class: Discrete; SubClass: Diode - Zener; Published: 8/06/2000; Publisher: Altium Hobart Technology Centre
simulation model 1N4739A (SUBCKT)
signal-integrity model 1N4739A
footprint DO-41-300-RED-GLASS (Diode, Axial; Body 5.2 x 2.7 mm (LxDia. max), Lead Dia. 0.86 mm (max))
pins: 1 A, 2 K

## 1N4740A
designator D?
10V One Watt Zener; Manufacturer: Fairchild Semiconductor; Revised: 11-July-2000: SIM Model Added.; Class: Discrete; SubClass: Diode - Zener; Published: 8/06/2000; Publisher: Altium Hobart Technology Centre
simulation model 1N4740A (SUBCKT)
signal-integrity model 1N4740A
footprint DO-41-300-RED-GLASS (Diode, Axial; Body 5.2 x 2.7 mm (LxDia. max), Lead Dia. 0.86 mm (max))
pins: 1 A, 2 K

## 1N4741A
designator D?
11V One Watt Zener; Manufacturer: Fairchild Semiconductor; Revised: 11-July-2000: SIM Model Added.; Class: Discrete; SubClass: Diode - Zener; Published: 8/06/2000; Publisher: Altium Hobart Technology Centre
simulation model 1N4741A (SUBCKT)
signal-integrity model 1N4741A
footprint DO-41-300-RED-GLASS (Diode, Axial; Body 5.2 x 2.7 mm (LxDia. max), Lead Dia. 0.86 mm (max))
pins: 1 A, 2 K

## 1N4742A
designator D?
12V One Watt Zener; Manufacturer: Fairchild Semiconductor; Revised: 11-July-2000: SIM Model Added.; Class: Discrete; SubClass: Diode - Zener; Published: 8/06/2000; Publisher: Altium Hobart Technology Centre
simulation model 1N4742A (SUBCKT)
signal-integrity model 1N4742A
footprint DO-41-300-RED-GLASS (Diode, Axial; Body 5.2 x 2.7 mm (LxDia. max), Lead Dia. 0.86 mm (max))
pins: 1 A, 2 K

## 1N4743A
designator D?
13V One Watt Zener; Manufacturer: Fairchild Semiconductor; Revised: 11-July-2000: SIM Model Added.; Class: Discrete; SubClass: Diode - Zener; Published: 8/06/2000; Publisher: Altium Hobart Technology Centre
simulation model 1N4743A (SUBCKT)
signal-integrity model 1N4743A
footprint DO-41-300-RED-GLASS (Diode, Axial; Body 5.2 x 2.7 mm (LxDia. max), Lead Dia. 0.86 mm (max))
pins: 1 A, 2 K

## 1N4744A
designator D?
15V One Watt Zener; Manufacturer: Fairchild Semiconductor; Revised: 11-July-2000: SIM Model Added.; Class: Discrete; SubClass: Diode - Zener; Published: 8/06/2000; Publisher: Altium Hobart Technology Centre
simulation model 1N4744A (SUBCKT)
signal-integrity model 1N4744A
footprint DO-41-300-RED-GLASS (Diode, Axial; Body 5.2 x 2.7 mm (LxDia. max), Lead Dia. 0.86 mm (max))
pins: 1 A, 2 K

## 1N4745A
designator D?
16V One Watt Zener; Manufacturer: Fairchild Semiconductor; Revised: 11-July-2000: SIM Model Added.; Class: Discrete; SubClass: Diode - Zener; Published: 8/06/2000; Publisher: Altium Hobart Technology Centre
simulation model 1N4745A (SUBCKT)
signal-integrity model 1N4745A
footprint DO-41-300-RED-GLASS (Diode, Axial; Body 5.2 x 2.7 mm (LxDia. max), Lead Dia. 0.86 mm (max))
pins: 1 A, 2 K

## 1N4746A
designator D?
18V One Watt Zener; Manufacturer: Fairchild Semiconductor; Revised: 11-July-2000: SIM Model Added.; Class: Discrete; SubClass: Diode - Zener; Published: 8/06/2000; Publisher: Altium Hobart Technology Centre
simulation model 1N4746A (SUBCKT)
signal-integrity model 1N4746A
footprint DO-41-300-RED-GLASS (Diode, Axial; Body 5.2 x 2.7 mm (LxDia. max), Lead Dia. 0.86 mm (max))
pins: 1 A, 2 K

## 1N4747A
designator D?
20V One Watt Zener; Manufacturer: Fairchild Semiconductor; Revised: 11-July-2000: SIM Model Added.; Class: Discrete; SubClass: Diode - Zener; Published: 8/06/2000; Publisher: Altium Hobart Technology Centre
simulation model 1N4747A (SUBCKT)
signal-integrity model 1N4747A
footprint DO-41-300-RED-GLASS (Diode, Axial; Body 5.2 x 2.7 mm (LxDia. max), Lead Dia. 0.86 mm (max))
pins: 1 A, 2 K

## 1N4748A
designator D?
22V One Watt Zener; Manufacturer: Fairchild Semiconductor; Revised: 11-July-2000: SIM Model Added.; Class: Discrete; SubClass: Diode - Zener; Published: 8/06/2000; Publisher: Altium Hobart Technology Centre
simulation model 1N4748A (SUBCKT)
signal-integrity model 1N4748A
footprint DO-41-300-RED-GLASS (Diode, Axial; Body 5.2 x 2.7 mm (LxDia. max), Lead Dia. 0.86 mm (max))
pins: 1 A, 2 K

## 1N4749A
designator D?
24V One Watt Zener; Manufacturer: Fairchild Semiconductor; Revised: 11-July-2000: SIM Model Added.; Class: Discrete; SubClass: Diode - Zener; Published: 8/06/2000; Publisher: Altium Hobart Technology Centre
simulation model 1N4749A (SUBCKT)
signal-integrity model 1N4749A
footprint DO-41-300-RED-GLASS (Diode, Axial; Body 5.2 x 2.7 mm (LxDia. max), Lead Dia. 0.86 mm (max))
pins: 1 A, 2 K

## 1N4750A
designator D?
27V One Watt Zener; Manufacturer: Fairchild Semiconductor; Revised: 11-July-2000: SIM Model Added.; Class: Discrete; SubClass: Diode - Zener; Published: 8/06/2000; Publisher: Altium Hobart Technology Centre
simulation model 1N4750A (SUBCKT)
signal-integrity model 1N4750A
footprint DO-41-300-RED-GLASS (Diode, Axial; Body 5.2 x 2.7 mm (LxDia. max), Lead Dia. 0.86 mm (max))
pins: 1 A, 2 K

## 1N4752A
designator D?
30V One Watt Zener; Manufacturer: Fairchild Semiconductor; Revised: 11-July-2000: SIM Model Added.; Class: Discrete; SubClass: Diode - Zener; Published: 8/06/2000; Publisher: Altium Hobart Technology Centre
simulation model 1N4752A (SUBCKT)
signal-integrity model 1N4752A
footprint DO-41-300-RED-GLASS (Diode, Axial; Body 5.2 x 2.7 mm (LxDia. max), Lead Dia. 0.86 mm (max))
pins: 1 A, 2 K

## 1N4934
designator D?
1A,  Vrms=70V Fast Recovery Rectifier; Published: 8-Jun-2000; LatestRevisionDate: 17-Jul-2002; LatestRevisionNote: Re-released for DXP Platform.; DatasheetVersion: 1998; PackageVersion: Aug-1999; PackageReference: DO-41; Publisher: Altium Limited; PackageDescription: Diode, Axial; Body 5.2 x 2.7 mm (LxDia. max), Lead Dia. 0.86 mm (max); Code_JEDEC: DO-204-AL; ComponentLink1Description: Manufacturer Link; ComponentLink1URL: http://www.fairchildsemi.com/; ComponentLink2Description: Datasheet; ComponentLink2URL: http://www.fairchildsemi.com/ds/1N%2F1N4001.pdf
footprint DO-41-400-BLACK (Diode, Axial; Body 5.2 x 2.7 mm (LxDia. max), Lead Dia. 0.86 mm (max))
footprint DO-41-300-BLACK (Diode, Axial; Body 5.2 x 2.7 mm (LxDia. max), Lead Dia. 0.86 mm (max))
footprint DO-41-500-BLACK (Diode, Axial; Body 5.2 x 2.7 mm (LxDia. max), Lead Dia. 0.86 mm (max))
pins: 1 A, 2 K

## 1N5221B
designator D?
2.4V Half Watt Zener; Manufacturer: Fairchild Semiconductor; Revised: 11-July-2000: SIM Model Added.; Class: Discrete; SubClass: Diode - Zener; Published: 8/06/2000; Publisher: Altium Hobart Technology Centre
simulation model 1N5226B (SUBCKT)
signal-integrity model 1N5226B
footprint DO-35-300-RED-GLASS (Diode, Axial; Body 5.2 x 2.7 mm (LxDia. max), Lead Dia. 0.86 mm (max))
pins: 1 A, 2 K

## 1N5222B
designator D?
2.5V Half Watt Zener; Manufacturer: Fairchild Semiconductor; Revised: 11-July-2000: SIM Model Added.; Class: Discrete; SubClass: Diode - Zener; Published: 8/06/2000; Publisher: Altium Hobart Technology Centre
simulation model 1N5226B (SUBCKT)
signal-integrity model 1N5226B
footprint DO-35-300-RED-GLASS (Diode, Axial; Body 5.2 x 2.7 mm (LxDia. max), Lead Dia. 0.86 mm (max))
pins: 1 A, 2 K

## 1N5223B
designator D?
2.7V Half Watt Zener; Manufacturer: Fairchild Semiconductor; Revised: 11-July-2000: SIM Model Added.; Class: Discrete; SubClass: Diode - Zener; Published: 8/06/2000; Publisher: Altium Hobart Technology Centre
simulation model 1N5226B (SUBCKT)
signal-integrity model 1N5226B
footprint DO-35-300-RED-GLASS (Diode, Axial; Body 5.2 x 2.7 mm (LxDia. max), Lead Dia. 0.86 mm (max))
pins: 1 A, 2 K

## 1N5224B
designator D?
2.8V Half Watt Zener; Manufacturer: Fairchild Semiconductor; Revised: 11-July-2000: SIM Model Added.; Class: Discrete; SubClass: Diode - Zener; Published: 8/06/2000; Publisher: Altium Hobart Technology Centre
simulation model 1N5226B (SUBCKT)
signal-integrity model 1N5226B
footprint DO-35-300-RED-GLASS (Diode, Axial; Body 5.2 x 2.7 mm (LxDia. max), Lead Dia. 0.86 mm (max))
pins: 1 A, 2 K

## 1N5225B
designator D?
3V Half Watt Zener; Manufacturer: Fairchild Semiconductor; Revised: 11-July-2000: SIM Model Added.; Class: Discrete; SubClass: Diode - Zener; Published: 8/06/2000; Publisher: Altium Hobart Technology Centre
simulation model 1N5226B (SUBCKT)
signal-integrity model 1N5226B
footprint DO-35-300-RED-GLASS (Diode, Axial; Body 5.2 x 2.7 mm (LxDia. max), Lead Dia. 0.86 mm (max))
pins: 1 A, 2 K

## 1N5226B
designator D?
3.3V Half Watt Zener; Manufacturer: Fairchild Semiconductor; Revised: 11-July-2000: SIM Model Added.; Class: Discrete; SubClass: Diode - Zener; Published: 8/06/2000; Publisher: Altium Hobart Technology Centre
simulation model 1N5226B (SUBCKT)
signal-integrity model 1N5226B
footprint DO-35-300-RED-GLASS (Diode, Axial; Body 5.2 x 2.7 mm (LxDia. max), Lead Dia. 0.86 mm (max))
pins: 1 A, 2 K

## 1N5227B
designator D?
3.6V Half Watt Zener; Manufacturer: Fairchild Semiconductor; Revised: 11-July-2000: SIM Model Added.; Class: Discrete; SubClass: Diode - Zener; Published: 8/06/2000; Publisher: Altium Hobart Technology Centre
simulation model 1N5227B (SUBCKT)
signal-integrity model 1N5227B
footprint DO-35-300-RED-GLASS (Diode, Axial; Body 5.2 x 2.7 mm (LxDia. max), Lead Dia. 0.86 mm (max))
pins: 1 A, 2 K

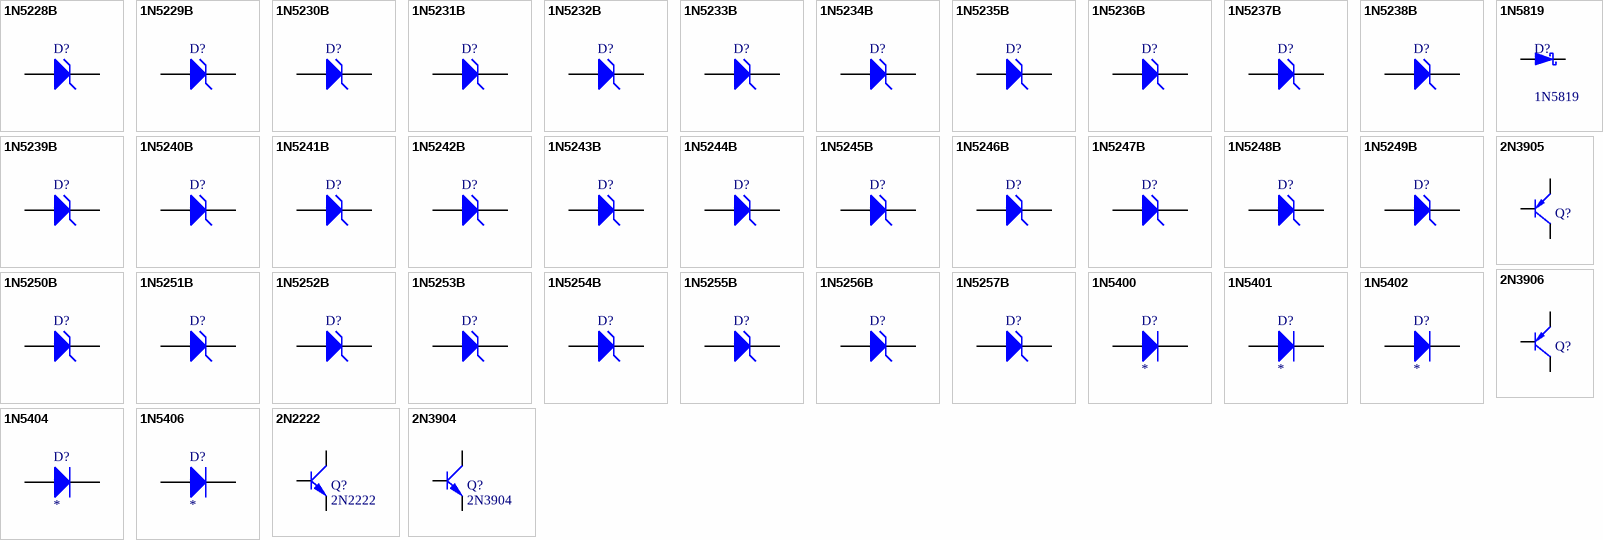
[diagram p2: symbols 1N5228B to 2N3906]

## 1N5228B
designator D?
3.9V Half Watt Zener; Manufacturer: Fairchild Semiconductor; Revised: 11-July-2000: SIM Model Added.; Class: Discrete; SubClass: Diode - Zener; Published: 8/06/2000; Publisher: Altium Hobart Technology Centre
simulation model 1N5228B (SUBCKT)
signal-integrity model 1N5228B
footprint DO-35-300-RED-GLASS (Diode, Axial; Body 5.2 x 2.7 mm (LxDia. max), Lead Dia. 0.86 mm (max))
pins: 1 A, 2 K

## 1N5229B
designator D?
4.3V Half Watt Zener; Manufacturer: Fairchild Semiconductor; Revised: 11-July-2000: SIM Model Added.; Class: Discrete; SubClass: Diode - Zener; Published: 8/06/2000; Publisher: Altium Hobart Technology Centre
simulation model 1N5228B (SUBCKT)
signal-integrity model 1N5228B
footprint DO-35-300-RED-GLASS (Diode, Axial; Body 5.2 x 2.7 mm (LxDia. max), Lead Dia. 0.86 mm (max))
pins: 1 A, 2 K

## 1N5230B
designator D?
4.7V Half Watt Zener; Manufacturer: Fairchild Semiconductor; Revised: 11-July-2000: SIM Model Added.; Class: Discrete; SubClass: Diode - Zener; Published: 8/06/2000; Publisher: Altium Hobart Technology Centre
simulation model 1N5230B (SUBCKT)
signal-integrity model 1N5230B
footprint DO-35-300-RED-GLASS (Diode, Axial; Body 5.2 x 2.7 mm (LxDia. max), Lead Dia. 0.86 mm (max))
pins: 1 A, 2 K

## 1N5231B
designator D?
5.1V Half Watt Zener; Manufacturer: Fairchild Semiconductor; Revised: 11-July-2000: SIM Model Added.; Class: Discrete; SubClass: Diode - Zener; Published: 8/06/2000; Publisher: Altium Hobart Technology Centre
simulation model 1N5231B (SUBCKT)
signal-integrity model 1N5231B
footprint DO-35-300-RED-GLASS (Diode, Axial; Body 5.2 x 2.7 mm (LxDia. max), Lead Dia. 0.86 mm (max))
pins: 1 A, 2 K

## 1N5232B
designator D?
5.6V Half Watt Zener; Manufacturer: Fairchild Semiconductor; Revised: 11-July-2000: SIM Model Added.; Class: Discrete; SubClass: Diode - Zener; Published: 8/06/2000; Publisher: Altium Hobart Technology Centre
simulation model 1N5232B (SUBCKT)
signal-integrity model 1N5232B
footprint DO-35-300-RED-GLASS (Diode, Axial; Body 5.2 x 2.7 mm (LxDia. max), Lead Dia. 0.86 mm (max))
pins: 1 A, 2 K

## 1N5233B
designator D?
6V Half Watt Zener; Manufacturer: Fairchild Semiconductor; Revised: 11-July-2000: SIM Model Added.; Class: Discrete; SubClass: Diode - Zener; Published: 8/06/2000; Publisher: Altium Hobart Technology Centre
simulation model 1N5233B (SUBCKT)
signal-integrity model 1N5233B
footprint DO-35-300-RED-GLASS (Diode, Axial; Body 5.2 x 2.7 mm (LxDia. max), Lead Dia. 0.86 mm (max))
pins: 1 A, 2 K

## 1N5234B
designator D?
6.2V Half Watt Zener; Manufacturer: Fairchild Semiconductor; Revised: 11-July-2000: SIM Model Added.; Class: Discrete; SubClass: Diode - Zener; Published: 8/06/2000; Publisher: Altium Hobart Technology Centre
simulation model 1N5234B (SUBCKT)
signal-integrity model 1N5234B
footprint DO-35-300-RED-GLASS (Diode, Axial; Body 5.2 x 2.7 mm (LxDia. max), Lead Dia. 0.86 mm (max))
pins: 1 A, 2 K

## 1N5235B
designator D?
6.8V Half Watt Zener; Manufacturer: Fairchild Semiconductor; Revised: 11-July-2000: SIM Model Added.; Class: Discrete; SubClass: Diode - Zener; Published: 8/06/2000; Publisher: Altium Hobart Technology Centre
simulation model 1N5235B (SUBCKT)
signal-integrity model 1N5235B
footprint DO-35-300-RED-GLASS (Diode, Axial; Body 5.2 x 2.7 mm (LxDia. max), Lead Dia. 0.86 mm (max))
pins: 1 A, 2 K

## 1N5236B
designator D?
7.5V Half Watt Zener; Manufacturer: Fairchild Semiconductor; Revised: 11-July-2000: SIM Model Added.; Class: Discrete; SubClass: Diode - Zener; Published: 8/06/2000; Publisher: Altium Hobart Technology Centre
simulation model 1N5236B (SUBCKT)
signal-integrity model 1N5236B
footprint DO-35-300-RED-GLASS (Diode, Axial; Body 5.2 x 2.7 mm (LxDia. max), Lead Dia. 0.86 mm (max))
pins: 1 A, 2 K

## 1N5237B
designator D?
8.2V Half Watt Zener; Manufacturer: Fairchild Semiconductor; Revised: 11-July-2000: SIM Model Added.; Class: Discrete; SubClass: Diode - Zener; Published: 8/06/2000; Publisher: Altium Hobart Technology Centre
simulation model 1N5237B (SUBCKT)
signal-integrity model 1N5237B
footprint DO-35-300-RED-GLASS (Diode, Axial; Body 5.2 x 2.7 mm (LxDia. max), Lead Dia. 0.86 mm (max))
pins: 1 A, 2 K

## 1N5238B
designator D?
8.7V Half Watt Zener; Manufacturer: Fairchild Semiconductor; Revised: 11-July-2000: SIM Model Added.; Class: Discrete; SubClass: Diode - Zener; Published: 8/06/2000; Publisher: Altium Hobart Technology Centre
simulation model 1N5238B (SUBCKT)
signal-integrity model 1N5238B
footprint DO-35-300-RED-GLASS (Diode, Axial; Body 5.2 x 2.7 mm (LxDia. max), Lead Dia. 0.86 mm (max))
pins: 1 A, 2 K

## 1N5239B
designator D?
9.1V Half Watt Zener; Manufacturer: Fairchild Semiconductor; Revised: 11-July-2000: SIM Model Added.; Class: Discrete; SubClass: Diode - Zener; Published: 8/06/2000; Publisher: Altium Hobart Technology Centre
simulation model 1N5239B (SUBCKT)
signal-integrity model 1N5239B
footprint DO-35-300-RED-GLASS (Diode, Axial; Body 5.2 x 2.7 mm (LxDia. max), Lead Dia. 0.86 mm (max))
pins: 1 A, 2 K

## 1N5240B
designator D?
10V Half Watt Zener; Manufacturer: Fairchild Semiconductor; Revised: 11-July-2000: SIM Model Added.; Class: Discrete; SubClass: Diode - Zener; Published: 8/06/2000; Publisher: Altium Hobart Technology Centre
simulation model 1N5240B (SUBCKT)
signal-integrity model 1N5240B
footprint DO-35-300-RED-GLASS (Diode, Axial; Body 5.2 x 2.7 mm (LxDia. max), Lead Dia. 0.86 mm (max))
pins: 1 A, 2 K

## 1N5241B
designator D?
11V Half Watt Zener; Manufacturer: Fairchild Semiconductor; Revised: 11-July-2000: SIM Model Added.; Class: Discrete; SubClass: Diode - Zener; Published: 8/06/2000; Publisher: Altium Hobart Technology Centre
simulation model 1N5241B (SUBCKT)
signal-integrity model 1N5241B
footprint DO-35-300-RED-GLASS (Diode, Axial; Body 5.2 x 2.7 mm (LxDia. max), Lead Dia. 0.86 mm (max))
pins: 1 A, 2 K

## 1N5242B
designator D?
12V Half Watt Zener; Manufacturer: Fairchild Semiconductor; Revised: 11-July-2000: SIM Model Added.; Class: Discrete; SubClass: Diode - Zener; Published: 8/06/2000; Publisher: Altium Hobart Technology Centre
simulation model 1N5242B (SUBCKT)
signal-integrity model 1N5242B
footprint DO-35-300-RED-GLASS (Diode, Axial; Body 5.2 x 2.7 mm (LxDia. max), Lead Dia. 0.86 mm (max))
pins: 1 A, 2 K

## 1N5243B
designator D?
13V Half Watt Zener; Manufacturer: Fairchild Semiconductor; Revised: 11-July-2000: SIM Model Added.; Class: Discrete; SubClass: Diode - Zener; Published: 8/06/2000; Publisher: Altium Hobart Technology Centre
simulation model 1N5243B (SUBCKT)
signal-integrity model 1N5243B
footprint DO-35-300-RED-GLASS (Diode, Axial; Body 5.2 x 2.7 mm (LxDia. max), Lead Dia. 0.86 mm (max))
pins: 1 A, 2 K

## 1N5244B
designator D?
14V Half Watt Zener; Manufacturer: Fairchild Semiconductor; Revised: 11-July-2000: SIM Model Added.; Class: Discrete; SubClass: Diode - Zener; Published: 8/06/2000; Publisher: Altium Hobart Technology Centre
simulation model 1N5244B (SUBCKT)
signal-integrity model 1N5244B
footprint DO-35-300-RED-GLASS (Diode, Axial; Body 5.2 x 2.7 mm (LxDia. max), Lead Dia. 0.86 mm (max))
pins: 1 A, 2 K

## 1N5245B
designator D?
15V Half Watt Zener; Manufacturer: Fairchild Semiconductor; Revised: 11-July-2000: SIM Model Added.; Class: Discrete; SubClass: Diode - Zener; Published: 8/06/2000; Publisher: Altium Hobart Technology Centre
simulation model 1N5245A (SUBCKT)
signal-integrity model 1N5245B
footprint DO-35-300-RED-GLASS (Diode, Axial; Body 5.2 x 2.7 mm (LxDia. max), Lead Dia. 0.86 mm (max))
pins: 1 A, 2 K

## 1N5246B
designator D?
16V Half Watt Zener; Manufacturer: Fairchild Semiconductor; Revised: 11-July-2000: SIM Model Added.; Class: Discrete; SubClass: Diode - Zener; Published: 8/06/2000; Publisher: Altium Hobart Technology Centre
simulation model 1N5246B (SUBCKT)
signal-integrity model 1N5246B
footprint DO-35-300-RED-GLASS (Diode, Axial; Body 5.2 x 2.7 mm (LxDia. max), Lead Dia. 0.86 mm (max))
pins: 1 A, 2 K

## 1N5247B
designator D?
17V Half Watt Zener; Manufacturer: Fairchild Semiconductor; Revised: 11-July-2000: SIM Model Added.; Class: Discrete; SubClass: Diode - Zener; Published: 8/06/2000; Publisher: Altium Hobart Technology Centre
simulation model 1N5247B (SUBCKT)
signal-integrity model 1N5247B
footprint DO-35-300-RED-GLASS (Diode, Axial; Body 5.2 x 2.7 mm (LxDia. max), Lead Dia. 0.86 mm (max))
pins: 1 A, 2 K

## 1N5248B
designator D?
18V Half Watt Zener; Manufacturer: Fairchild Semiconductor; Revised: 11-July-2000: SIM Model Added.; Class: Discrete; SubClass: Diode - Zener; Published: 8/06/2000; Publisher: Altium Hobart Technology Centre
simulation model 1N5248B (SUBCKT)
signal-integrity model 1N5248B
footprint DO-35-300-RED-GLASS (Diode, Axial; Body 5.2 x 2.7 mm (LxDia. max), Lead Dia. 0.86 mm (max))
pins: 1 A, 2 K

## 1N5249B
designator D?
19V Half Watt Zener; Manufacturer: Fairchild Semiconductor; Revised: 11-July-2000: SIM Model Added.; Class: Discrete; SubClass: Diode - Zener; Published: 8/06/2000; Publisher: Altium Hobart Technology Centre
simulation model 1N5249B (SUBCKT)
signal-integrity model 1N5249B
footprint DO-35-300-RED-GLASS (Diode, Axial; Body 5.2 x 2.7 mm (LxDia. max), Lead Dia. 0.86 mm (max))
pins: 1 A, 2 K

## 1N5250B
designator D?
20V Half Watt Zener; Manufacturer: Fairchild Semiconductor; Revised: 11-July-2000: SIM Model Added.; Class: Discrete; SubClass: Diode - Zener; Published: 8/06/2000; Publisher: Altium Hobart Technology Centre
simulation model 1N5250B (SUBCKT)
signal-integrity model 1N5250B
footprint DO-35-300-RED-GLASS (Diode, Axial; Body 5.2 x 2.7 mm (LxDia. max), Lead Dia. 0.86 mm (max))
pins: 1 A, 2 K

## 1N5251B
designator D?
22V Half Watt Zener; Manufacturer: Fairchild Semiconductor; Revised: 11-July-2000: SIM Model Added.; Class: Discrete; SubClass: Diode - Zener; Published: 8/06/2000; Publisher: Altium Hobart Technology Centre
simulation model 1N5251B (SUBCKT)
signal-integrity model 1N5251B
footprint DO-35-300-RED-GLASS (Diode, Axial; Body 5.2 x 2.7 mm (LxDia. max), Lead Dia. 0.86 mm (max))
pins: 1 A, 2 K

## 1N5252B
designator D?
24V Half Watt Zener; Manufacturer: Fairchild Semiconductor; Revised: 11-July-2000: SIM Model Added.; Class: Discrete; SubClass: Diode - Zener; Published: 8/06/2000; Publisher: Altium Hobart Technology Centre
simulation model 1N5252B (SUBCKT)
signal-integrity model 1N5252B
footprint DO-35-300-RED-GLASS (Diode, Axial; Body 5.2 x 2.7 mm (LxDia. max), Lead Dia. 0.86 mm (max))
pins: 1 A, 2 K